# Altium footprint library PCB - CONNECTOR - WURTH - WURTH 691322110008.PcbLib: 1 footprints
Each footprint in its own frame and in the unit in brackets; x right, y up, seen from the top. Pads: shape width x height; smd on the part's side, far side on the other; paste and mask are expansions set on the pad; w line width, h text height; cw(c..) or ccw(c..) is an arc to the next point about the centre after c.
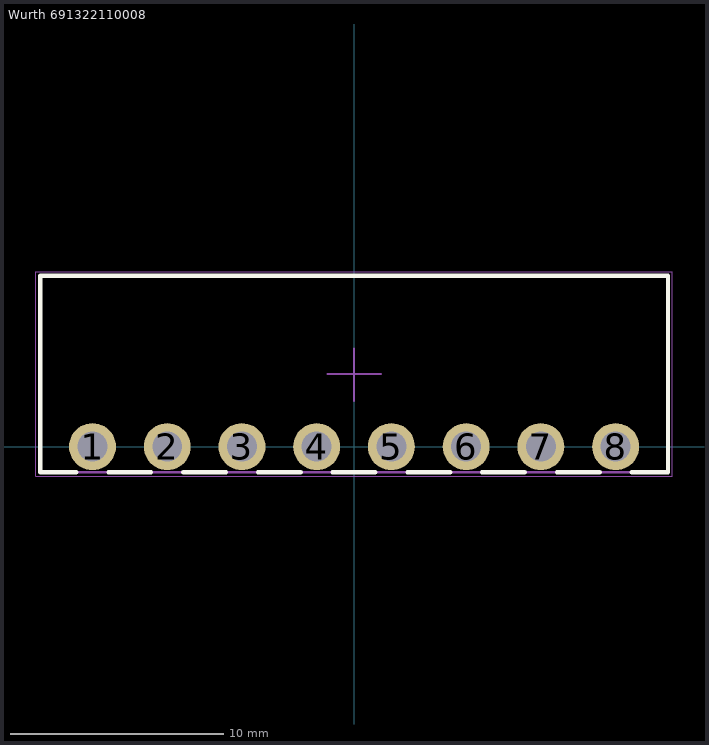
[diagram p0: the footprint, top view; thin cyan lines are the x and y axes]

## Wurth 691322110008 [mm] "8 Position Terminal Block Header, Male Pins, 3.5mm Pitch,29.4x9.2mm Body, 90°, Right Angle, THT"
height 7.4
pads (8):
  round 2.2 hole 1.4: 1(-12.25,0) 2(-8.75,0) 3(-5.25,0) 4(-1.75,0) 5(1.75,0) 6(5.25,0) 7(8.75,0) 8(12.25,0)
Top Overlay:
  lines w0.2: -13.005,-1.2 -14.7,-1.2 -14.7,8 14.7,8 14.7,-1.2 13.005,-1.2 ; -11.505,-1.2 -9.505,-1.2 ; -8,-1.2 -6,-1.2 ; -4.495,-1.2 -2.495,-1.2 ; -1.005,-1.2 0.995,-1.2 ; 2.505,-1.2 4.505,-1.2 ; 5.995,-1.2 7.995,-1.2 ; 9.505,-1.2 11.505,-1.2
Mechanical 13:
  lines w0.1: -14.7,-1.2 14.7,-1.2 14.7,8 -14.7,8 -14.7,-1.2
Mechanical 15 (Mech15):
  lines w0.05: -14.905,-1.4 14.9,-1.4 14.9,8.2 -14.905,8.2 -14.905,-1.4
  lines w0.1: -1.25,3.4 0,3.4 ; 0,2.15 0,3.4 ; 0,4.6 0,3.4 ; 1.25,3.4 0,3.4
3D body "Würth Elektronik - 691322110008 v2.step": height 7.2, standoff -3.5, extent -14.7,-1.2 14.7,8